# Altium schematic symbol library xiaomo.SchLib: 106 symbols
Pins are listed as number, name and electrical type; pins without a type are passive.

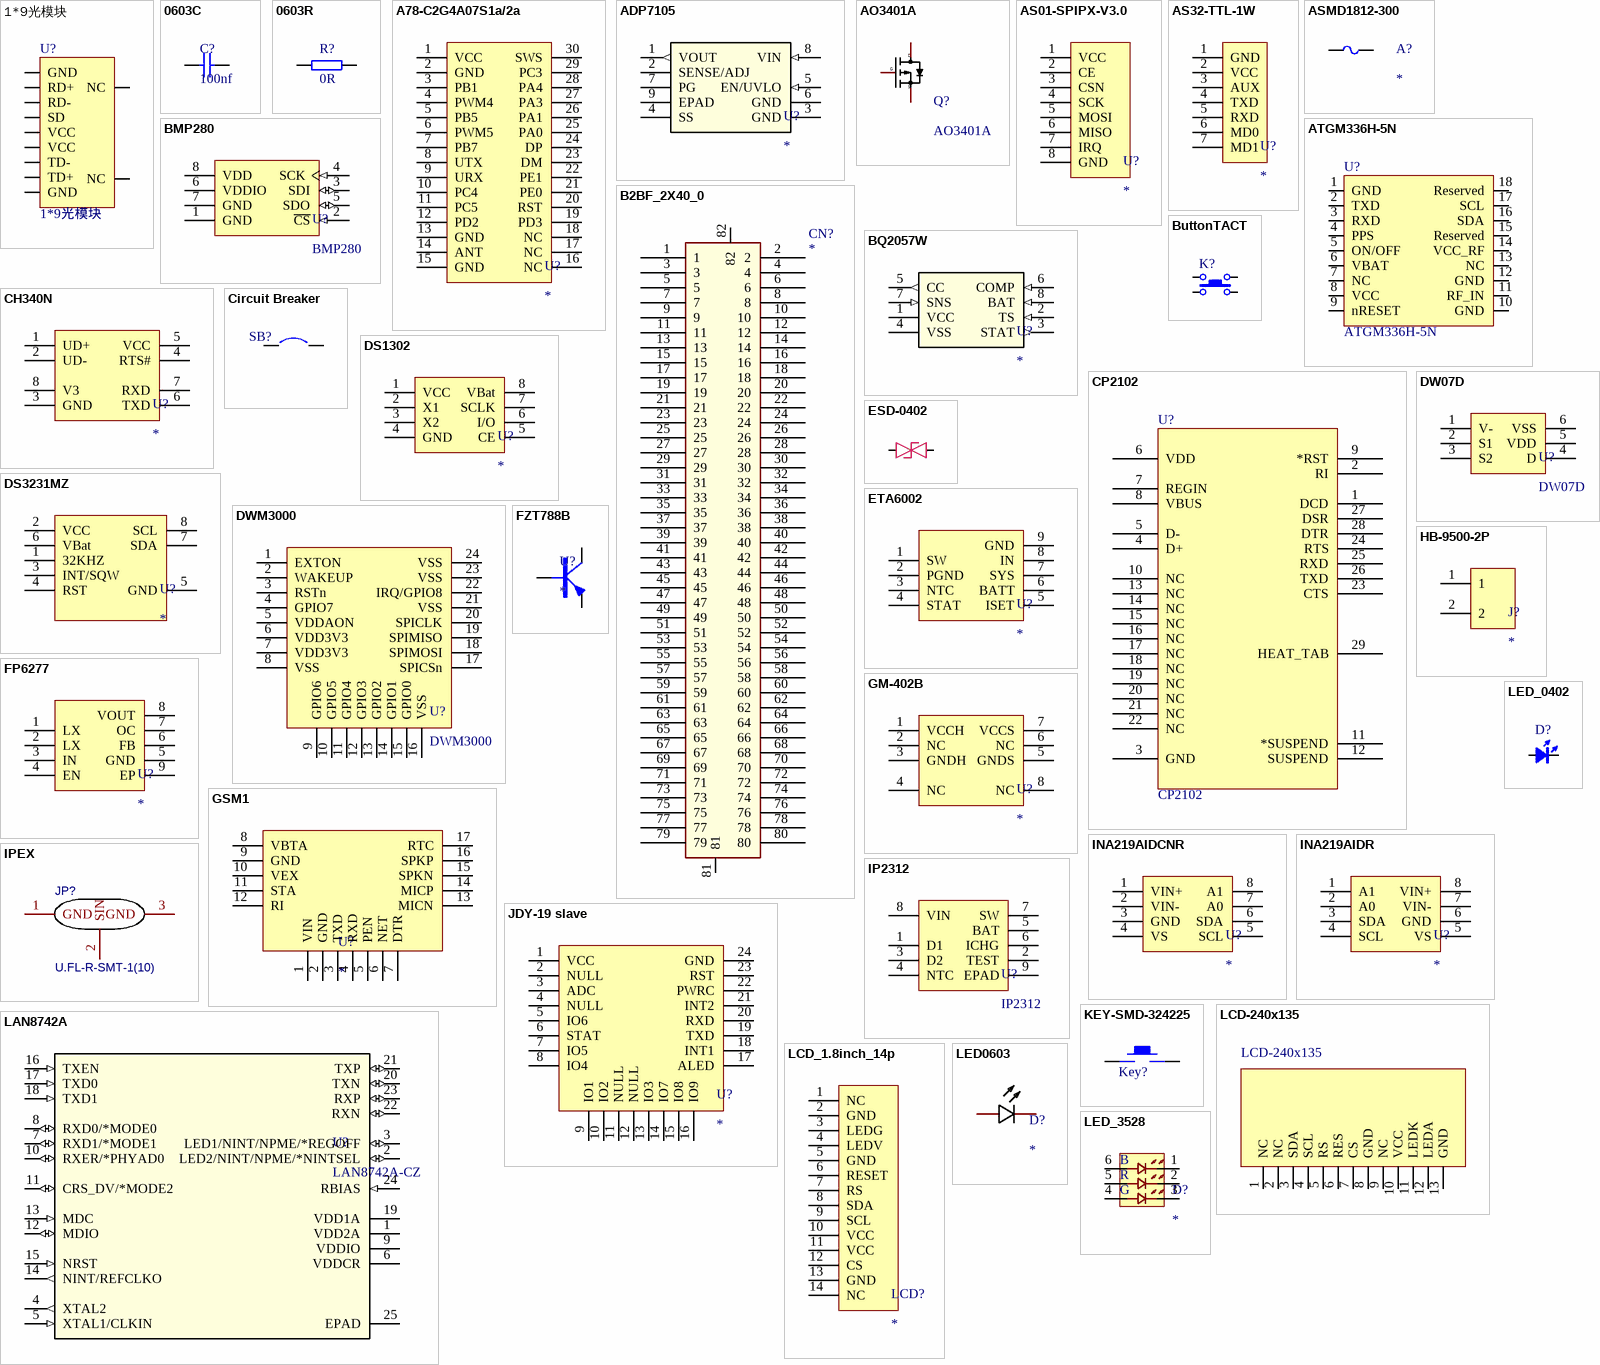
[diagram p0: symbols 1*9光模块 to LED_3528]

## 1*9光模块
designator U?
footprint 1*9 光模块
footprint 1*9 光模块
pins: 1 GND, 2 RD+, 3 RD-, 4 SD, 5 VCC, 6 VCC, 7 TD-, 8 TD+, 9 GND, 10 NC, 11 NC

## 0603C
designator C?, comment 100nf
footprint 0603C
footprint 0201C
footprint 0402C
pins: 1, 2

## 0603R
designator R?, comment 0R
footprint 0603R
footprint 0201R
footprint 0402R
pins: 1, 2

## A78-C2G4A07S1a/2a
designator U?
footprint A78-C2G4A07S1a/2a
pins: 1 VCC, 2 GND, 3 PB1, 4 PWM4, 5 PB5, 6 PWM5, 7 PB7, 8 UTX, 9 URX, 10 PC4, 11 PC5, 12 PD2, 13 GND, 14 ANT, 15 GND, 16 NC, 17 NC, 18 NC, 19 PD3, 20 RST, 21 PE0, 22 PE1, 23 DM, 24 DP, 25 PA0, 26 PA1, 27 PA3, 28 PA4, 29 PC3, 30 SWS

## ADP7105
designator U?
20 V、500 mA低噪声LDO / 稳压器，具有软启动功能
footprint ADP7105
pins: 1 VOUT (out), 2 SENSE/ADJ, 3 GND, 4 SS, 5 EN/UVLO (in), 6 GND, 7 PG (power), 8 VIN (in), 9 EPAD

## AO3401A
designator Q?
PMOS,30V,4.2A
footprint SOT23-3
pins: 1 G, 2 S, 3 D

## AS01-SPIPX-V3.0
designator U?
AS01-SPIPX-V3.0
footprint AS01-SPIPX-V3.0
pins: 1 VCC, 2 CE, 3 CSN, 4 SCK, 5 MOSI, 6 MISO, 7 IRQ, 8 GND

## AS32-TTL-1W
designator U?
LoRa模块
footprint AS32-TTL-1W
footprint AS62d33(433MHz)-TTL-2W
pins: 1 GND, 2 VCC, 3 AUX, 4 TXD, 5 RXD, 6 MD0, 7 MD1

## ASMD1812-300
designator A?
3A自恢复保险丝。最大电压：8V 最大电流：100A 保持电流：3A 跳闸电流：5A 消耗功率：800mW 初始态阻值(最小值)：12mΩ 跳断后阻值(最大值)：40mΩ 最大动作时间：4s 工作温度：-40℃~+85℃ 8V , 100A , 3A , 5A , 800mW , 12mΩ , 40mΩ , 4s , -40℃~+85℃ ,
footprint FUSE-1812
pins: 1, 2

## ATGM336H-5N
designator U?
ATGM336H-5N31
footprint ATGM336H-5N
pins: 1 GND, 2 TXD, 3 RXD, 4 PPS, 5 ON/OFF, 6 VBAT, 7 NC, 8 VCC, 9 nRESET, 10 GND, 11 RF_IN, 12 GND, 13 NC, 14 VCC_RF, 15 Reserved, 16 SDA, 17 SCL, 18 Reserved

## B2BF_2X40_0
designator CN?
footprint B2BM-2X40-0P8
pins: 1, 2, 3, 4, 5, 6, 7, 8, 9, 10, 11, 12, 13, 14, 15, 16, 17, 18, 19, 20, 21, 22, 23, 24, 25, 26, 27, 28, 29, 30, 31, 32, 33, 34, 35, 36, 37, 38, 39, 40, 41, 42, 43, 44, 45, 46, 47, 48, 49, 50, 51, 52, 53, 54, 55, 56, 57, 58, 59, 60, 61, 62, 63, 64, 65, 66, 67, 68, 69, 70, 71, 72, 73, 74, 75, 76, 77, 78, 79, 80, 81, 82

## BMP280
designator U?
Digital Barometric Pressure Sensor 30-110kPa LGA8
footprint BMP280
pins: 1 GND (power), 2 ~{CS} (in), 3 SDI (io), 4 SCK (in), 5 SDO (io), 6 VDDIO (power), 7 GND (power), 8 VDD (power)

## BQ2057W
designator U?
Ideal for Single (4.1 V or 4.2 V) and Dual-Cell / (8.2 V or 8.4 V) Li-Ion or Li-Pol Packs
footprint BQ2057W
pins: 1 VCC (power), 2 TS (in), 3 STAT (out), 4 VSS (power), 5 CC (out), 6 COMP (in), 7 SNS (in), 8 BAT (in)

## ButtonTACT
designator K?, comment TACT 4P  (value not drawn)
Button; value: 3.4x3.5; type: TACT 4P
footprint ButtonTACT_3.5*3.55_90
pins: 1, 2, 3, 4

## CH340N
designator U?
SOP-8，USB转TTL，内部晶振
footprint SOP8
pins: 1 UD+, 2 UD-, 3 GND, 4 RTS#, 5 VCC, 6 TXD, 7 RXD, 8 V3

## Circuit Breaker
designator SB?  (value not drawn)
Solder: NO; Published: 24-Mar-1999; Revision: July-2002: Re-released for DXP Platform.; Publisher: Altium Limited
footprint SPST-2 (Circuit Breaker; 2 Leads)
footprint JP2_SMD
footprint JP2_SMD
pins: 1, 2

## CP2102
designator U?
USB转TTL; PART DESC: SINGLE-CHIP USB TO UART BRIDGE, QFN28, RoHS.; MFG #1: SILICON LABS; PART NUMBER: CP2102; Value: Value; RefDes: RefDes; Type: DEV
footprint QFN-28
pins: 1 DCD, 2 RI, 3 GND, 4 D+, 5 D-, 6 VDD, 7 REGIN, 8 VBUS, 9 *RST, 10 NC, 11 *SUSPEND, 12 SUSPEND, 13 NC, 14 NC, 15 NC, 16 NC, 17 NC, 18 NC, 19 NC, 20 NC, 21 NC, 22 NC, 23 CTS, 24 RTS, 25 RXD, 26 TXD, 27 DSR, 28 DTR, 29 HEAT_TAB

## DS1302
designator U?
DS1302/DS1302Z
footprint SOP8 - duplicate
pins: 1 VCC, 2 X1, 3 X2, 4 GND, 5 CE, 6 I/O, 7 SCLK, 8 VBat

## DS3231MZ
designator U?
IIC高精度RTC
footprint SOP8 - duplicate
footprint SOP8
pins: 1 32KHZ, 2 VCC, 3 INT/SQW, 4 RST, 5 GND, 6 VBat, 7 SDA, 8 SCL

## DW07D
designator U?
单节锂电池保护IC，过流保护3A
footprint SOT23-6
pins: 1 V- "充电器检测", 2 S1 "充电负极", 3 S2 "连接VSS", 4 D, 5 VDD "正电源", 6 VSS "接电池负极"

## DWM3000
designator U?
footprint DWM1000
pins: 1 EXTON, 2 WAKEUP, 3 RSTn, 4 GPIO7, 5 VDDAON, 6 VDD3V3, 7 VDD3V3, 8 VSS, 9 GPIO6, 10 GPIO5, 11 GPIO4, 12 GPIO3, 13 GPIO2, 14 GPIO1, 15 GPIO0, 16 VSS, 17 SPICSn, 18 SPIMOSI, 19 SPIMISO, 20 SPICLK, 21 VSS, 22 IRQ/GPIO8, 23 VSS, 24 VSS

## ESD-0402
designator ESD-?  (value not drawn)
ESD
footprint ESD-0402
pins: 1, 2

## ETA6002
designator U?
2.5A单节锂电池充电IC，输入4.5-5.5V
footprint SOP8-exposed pad
pins: 1 SW, 2 PGND, 3 NTC, 4 STAT, 5 ISET, 6 BATT, 7 SYS, 8 IN, 9 GND

## FP6277
designator U?
输入2.4-4.5V，最大输出5.3V，
footprint SOP8-exposed pad
pins: 1 LX, 2 LX, 3 IN, 4 EN, 5 GND, 6 FB, 7 OC, 8 VOUT, 9 EP

## FZT788B
designator U?
15V PNP MEDIUM POWER HIGH GAIN TRANSISTOR IN SOT223
footprint SOT223
pins: B, C, E

## GM-402B
designator U?
MEMS可燃气体传感器
footprint GM-402B (MEMS可燃气体传感器)
pins: 1 VCCH, 2 NC, 3 GNDH, 4 NC, 5 GNDS, 6 NC, 7 VCCS, 8 NC

## GSM1
designator U?
GSM
footprint GSM1
pins: 1 VIN, 2 GND, 3 TXD, 4 RXD, 5 PEN, 6 NET, 7 DTR, 8 VBTA, 9 GND, 10 VEX, 11 STA, 12 RI, 13 MICN, 14 MICP, 15 SPKN, 16 SPKP, 17 RTC

## HB-9500-2P
designator J?
footprint HB-9500-2P
pins: 1, 2

## INA219AIDCNR
designator U?
电流监控器IC
footprint SOT23-8
pins: 1 VIN+, 2 VIN-, 3 GND, 4 VS, 5 SCL, 6 SDA, 7 A0, 8 A1

## INA219AIDR
designator U?
电流监控器IC
footprint SOP8
pins: 1 A1, 2 A0, 3 SDA, 4 SCL, 5 VS, 6 GND, 7 VIN-, 8 VIN+

## IP2312
designator U?
单节锂电池同步开关降压充电IC
footprint SOP8-exposed pad
pins: 1 D1 "LED 驱动引脚/电池类型选择（IP2312_VSET）", 2 TEST "测试引脚，接1K 电阻到电池正极", 3 D2 "LED 驱动引脚", 4 NTC "NTC 温度保护，接NTC 电阻", 5 BAT "连接锂电池正极", 6 ICHG "充电电流设置引脚", 7 SW "DC-DC 开关引脚", 8 VIN "5V 充电输入引脚", 9 EPAD "GND"

## IPEX
designator JP?, comment U.FL-R-SMT-1(10)
C2894920; BOM_Manufacturer: HRS; BOM_Supplier: LCSC; BOM_Manufacturer Part: U.FL-R-SMT-1(10); BOM_Supplier Part: C88373; spicePre: J
footprint 天线底座 (U.FL-R-SMT-1(10))
pins: 1 GND, 2 SIN, 3 GND

## JDY-19 slave
designator U?
蓝牙4.2 从机
footprint JDY-19
pins: 1 VCC, 2 NULL, 3 ADC, 4 NULL, 5 IO6, 6 STAT, 7 IO5, 8 IO4, 9 IO1, 10 IO2, 11 NULL, 12 NULL, 13 IO3, 14 IO7, 15 IO8, 16 IO9, 17 ALED, 18 INT1, 19 TXD, 20 RXD, 21 INT2, 22 PWRC, 23 RST, 24 GND

## KEY-SMD-324225
designator Key?, comment S-KEY-SMD-324225  (value not drawn)
KEY,SMD,324225
footprint KEY-SOP324225
footprint KEY-SOP324225
pins: 1, 2

## LAN8742A
designator U?, comment LAN8742A-CZ
以太网芯片
footprint SQFN24_4X4MC_MCH
footprint SQFN24_4X4MC_MCH-L
footprint SQFN24_4X4MC_MCH-M
pins: 1 VDD2A (power), 2 LED2/NINT/NPME/*NINTSEL (io), 3 LED1/NINT/NPME/*REGOFF (io), 4 XTAL2 (out), 5 XTAL1/CLKIN (in), 6 VDDCR (power), 7 RXD1/*MODE1 (io), 8 RXD0/*MODE0 (io), 9 VDDIO (power), 10 RXER/*PHYAD0 (io), 11 CRS_DV/*MODE2 (io), 12 MDIO (io), 13 MDC (in), 14 NINT/REFCLKO (out), 15 NRST (in), 16 TXEN (in), 17 TXD0 (in), 18 TXD1 (in), 19 VDD1A (power), 20 TXN (io), 21 TXP (io), 22 RXN (io), 23 RXP (io), 24 RBIAS (in), 25 EPAD

## LCD-240x135
designator LCD?
显示屏
footprint LCD-240x135
pins: 1 NC, 2 NC, 3 SDA, 4 SCL, 5 RS, 6 RES, 7 CS, 8 GND, 9 NC, 10 VCC, 11 LEDK, 12 LEDA, 13 GND

## LCD_1.8inch_14p
designator LCD?
1.8inchLCD, 14P
footprint LCD_1.8inch_14P
pins: 1 NC, 2 GND, 3 LEDG, 4 LEDV, 5 GND, 6 RESET, 7 RS, 8 SDA, 9 SCL, 10 VCC, 11 VCC, 12 CS, 13 GND, 14 NC

## LED0603
designator D?
0603LED
footprint LED-0603G
pins: A, K C

## LED_0402
designator D?, comment color?  (value not drawn)
LED; Type: 0402; Value: color?
footprint LED-0603W
footprint LED_0402
pins: A, K

## LED_3528
designator D?
3528LED RGB 三色，立创商城  C2843672
footprint 3528_LED_6P
pins: 1 B-, 2 G-, 3 R-, 4 R+, 5 G+, 6 B+
text: B; R; G

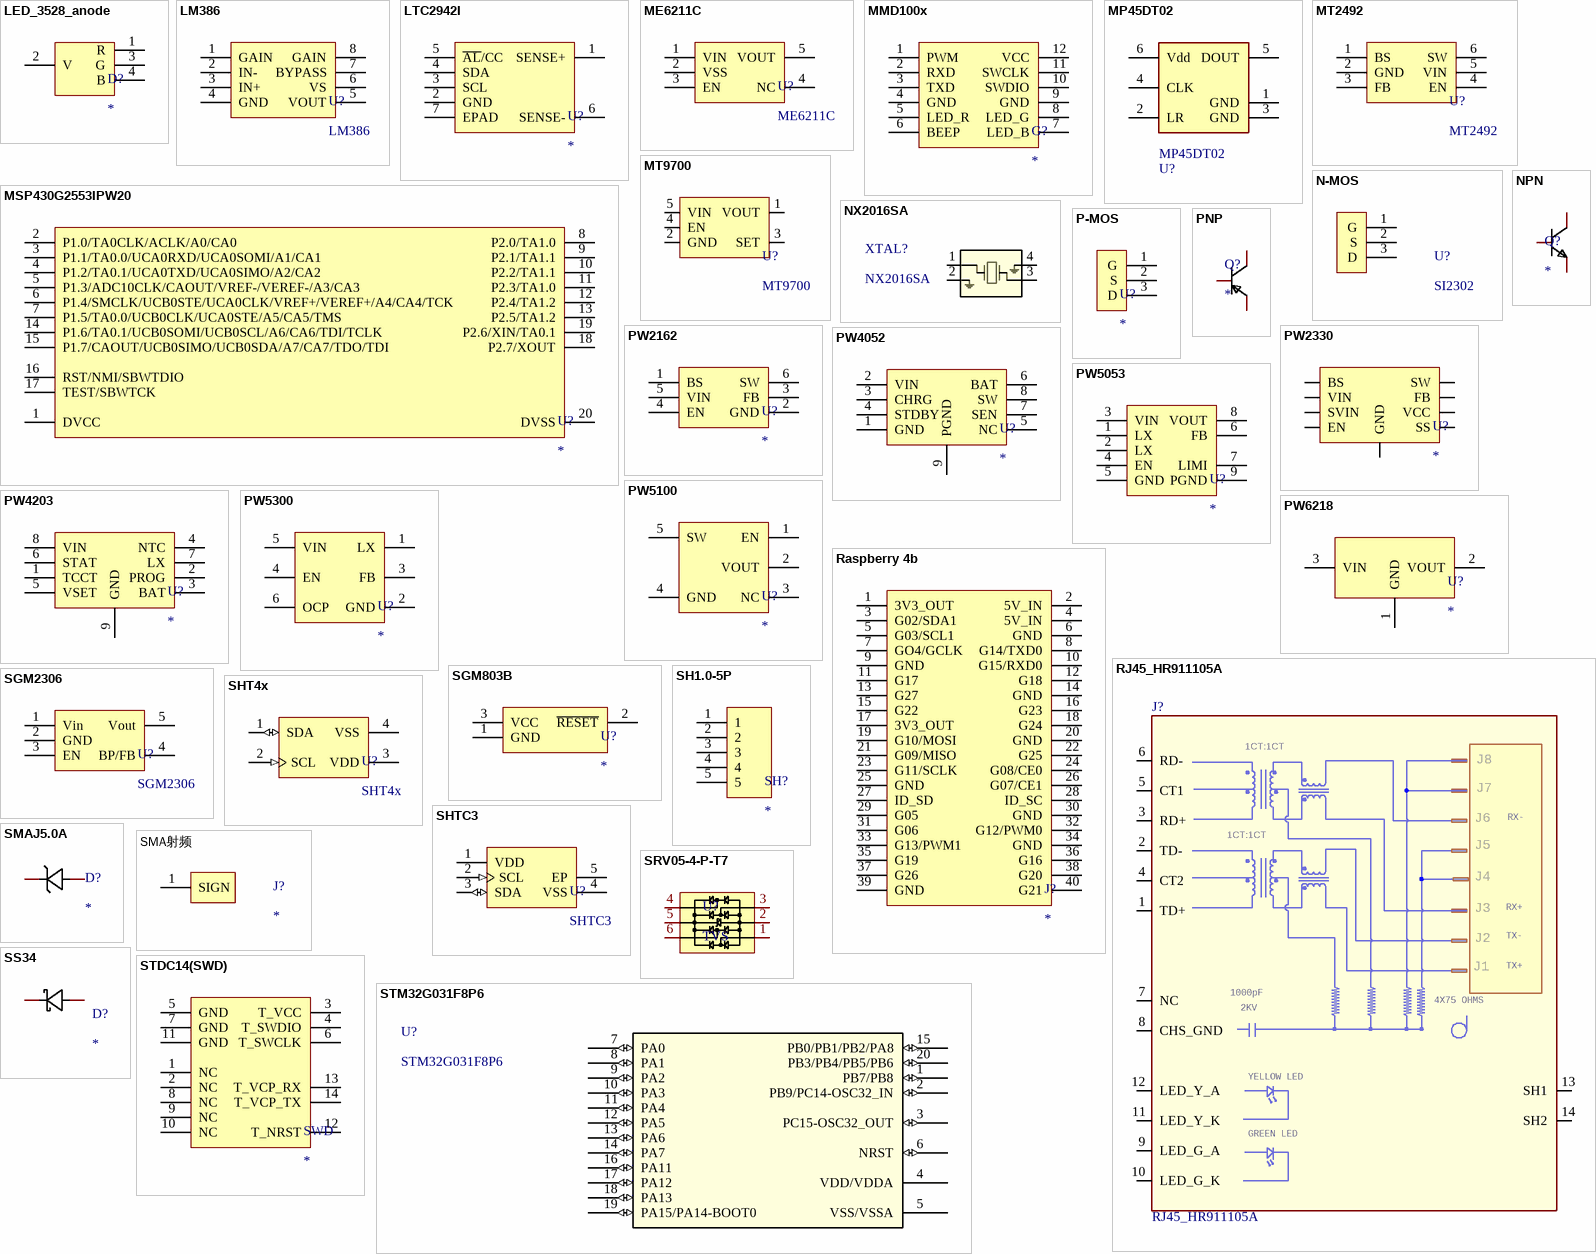
[diagram p1: symbols LED_3528_anode to STM32G031F8P6]

## LED_3528_anode
designator D?
3528LED RGB 共阳，立创商城 C516144
footprint 3528_LED
pins: 1 R, 2 V, 3 G, 4 B

## LM386
designator U?
LM386是一种音频集成功放，具有自身功耗低、更新内链增益可调整、电源电压范围大、外接元件少和总谐波失真小等优点的功率放大器，广泛应用于录音机和收音机之中。
footprint LM386-DIP8
footprint LM386-SOP8
pins: 1 GAIN, 2 IN-, 3 IN+, 4 GND, 5 VOUT, 6 VS, 7 BYPASS, 8 GAIN

## LTC2942I
designator U?
单节锂电池电量计芯片
footprint DFN-6_DCB_LIT-M
pins: 1 SENSE+, 2 GND, 3 SCL, 4 SDA, 5 ~{AL}/CC, 6 SENSE-, 7 EPAD

## ME6211C
designator U?
低压差线性稳压器
footprint SOT23-5
pins: 1 VIN, 2 VSS, 3 EN, 4 NC, 5 VOUT

## MMD100x
designator G?
footprint MMD100x
pins: 1 PWM, 2 RXD, 3 TXD, 4 GND, 5 LED_R, 6 BEEP, 7 LED_B, 8 LED_G, 9 GND, 10 SWDIO, 11 SWCLK, 12 VCC

## MP45DT02
designator U?  Part Number: MP45DT02
IC MIC MEMS DIGITAL OMNI -26DB; Manufacturer: STMicroelectronics; Frequency Range: 100Hz ~ 10kHz; S/N Ratio: 61dB; Sensitivity: -26dB ±3dB @ 94dB SPL; helpURL: https://upverter.com/upn/revision/194cad8a0962aed0/; ComponentLink2Description: Datasheet; Temperature: -30°C to +85°C; Package: SMD6; Supplier 2: Mouser; Price: 1.88399994308; Supplier 1: Digi-Key; ComponentLink1URL: https://upverter.com/upn/revision/194cad8a0962aed0/; Supplier Part Number 2: 511-MP45DT02; Supplier Part Number 1: MP45DT02-ND; ComponentLink1Description: Upverter; ComponentLink2URL: http://www.st.com/content/ccc/resource/technical/document/datasheet/group3/27/62/48/98/44/54/4d/36/DM00303211/files/DM00303211.pdf/jcr:content/translations/en.DM00303211.pdf; RoHS: TRUE; Mouser Part Number: 511-MP45DT02; Temperature Range High: +85°C; Digikey Description: IC MIC MEMS DIGITAL OMNI -26DB; Digikey Part Number: MP45DT02-ND; Lead Free: yes; Temperature Range Low: -30°C
footprint STMicroelectronics_MP45DT02_0
footprint MP45DT02
pins: 1 GND, 2 LR, 3 GND, 4 CLK, 5 DOUT, 6 Vdd

## MSP430G2553IPW20
designator U?
footprint TSSOP20
pins: 1 DVCC, 2 P1.0/TA0CLK/ACLK/A0/CA0, 3 P1.1/TA0.0/UCA0RXD/UCA0SOMI/A1/CA1, 4 P1.2/TA0.1/UCA0TXD/UCA0SIMO/A2/CA2, 5 P1.3/ADC10CLK/CAOUT/VREF-/VEREF-/A3/CA3, 6 P1.4/SMCLK/UCB0STE/UCA0CLK/VREF+/VEREF+/A4/CA4/TCK, 7 P1.5/TA0.0/UCB0CLK/UCA0STE/A5/CA5/TMS, 8 P2.0/TA1.0, 9 P2.1/TA1.1, 10 P2.2/TA1.1, 11 P2.3/TA1.0, 12 P2.4/TA1.2, 13 P2.5/TA1.2, 14 P1.6/TA0.1/UCB0SOMI/UCB0SCL/A6/CA6/TDI/TCLK, 15 P1.7/CAOUT/UCB0SIMO/UCB0SDA/A7/CA7/TDO/TDI, 16 RST/NMI/SBWTDIO, 17 TEST/SBWTCK, 18 P2.7/XOUT, 19 P2.6/XIN/TA0.1, 20 DVSS

## MT2492
designator U?
footprint SOT23-6
pins: 1 BS, 2 GND, 3 FB, 4 EN, 5 VIN, 6 SW

## MT9700
designator U?
低功耗负载开关/USB电源开关/限流保护开关。2.4V~5.5V。
footprint SOT23-5 (ME6211C-SOT23-5)
pins: 1 VOUT, 2 GND, 3 SET, 4 EN, 5 VIN

## N-MOS
designator U?, comment SI2302
footprint SOT23-3
pins: 1 G, 2 S, 3 D
1 alternate drawing of the same symbol

## NPN
designator Q?
footprint SOT23-3
pins: 1 B, 2 E, 3 C

## NX2016SA
designator XTAL?
4P无源晶振; Mfr_Name: NDK; Manufacturer_Part_Number: NX2016SA-40M-STD-CZS-3; Copyright: Copyright (C) 2023 Ultra Librarian. All rights reserved.; RefDes: RefDes; Type: DEV
footprint NX2016SA-40M-STD-CZS-3_NDK
pins: 1, 2, 3, 4

## P-MOS
designator U?
footprint SOT23-3
pins: 1 G, 2 S, 3 D

## PNP
designator Q?
footprint SOT23-3
pins: 1 B, 2 E, 3 C

## PW2162
designator U?
3.3V-16V输入，2A输出
footprint SOT23-6
pins: 1 BS, 2 GND, 3 FB, 4 EN, 5 VIN, 6 SW

## PW2330
designator U?
4.5-30V输入，最大输出3A。
footprint PW2330
pins: BS, EN, FB, GND, SS, SVIN, SW, VCC, VIN

## PW4052
designator U?
2.5A单节锂电池充电管理IC，4.7v~5.5V
footprint SOP8-exposed pad
pins: 1 GND, 2 VIN, 3 CHRG, 4 STDBY, 5 NC, 6 BAT, 7 SEN, 8 SW, 9 PGND

## PW4203
designator U?
4.5-24V输出，1-3节锂电池充电，最大2A
footprint SOP8 - duplicate
footprint SOP8-exposed pad
pins: 1 TCCT, 2 PROG, 3 BAT, 4 NTC, 5 VSET, 6 STAT, 7 LX, 8 VIN, 9 GND

## PW5053
designator U?
2.4V-4.5V输入，3.0V-5.5V输出，最大3A
footprint SOP8-exposed pad
pins: 1 LX, 2 LX, 3 VIN, 4 EN, 5 GND, 6 FB, 7 LIMI, 8 VOUT, 9 PGND

## PW5100
designator U?
footprint SOT23-5 - duplicate
footprint SOT23-5 (ME6211C-SOT23-5)
pins: 1 EN, 2 VOUT, 3 NC, 4 GND, 5 SW "Vin"

## PW5300
designator U?
footprint SOT23-6
pins: 1 LX, 2 GND, 3 FB, 4 EN, 5 VIN, 6 OCP

## PW6218
designator U?
18V输入，3V-5V输出，100mA
footprint SOT23-3
pins: 1 GND, 2 VOUT, 3 VIN

## Raspberry 4b
designator J?
树莓派4b引脚
footprint Fe-HDR2X20/2.54-S (Connector; Header; 20x2 Position)
footprint Pin HDR2X20/2.54mm-S (Connector; Header; 20x2 Position)
pins: 1 3V3_OUT, 2 5V_IN, 3 G02/SDA1, 4 5V_IN, 5 G03/SCL1, 6 GND, 7 GO4/GCLK, 8 G14/TXD0, 9 GND, 10 G15/RXD0, 11 G17, 12 G18, 13 G27, 14 GND, 15 G22, 16 G23, 17 3V3_OUT, 18 G24, 19 G10/MOSI, 20 GND, 21 G09/MISO, 22 G25, 23 G11/SCLK, 24 G08/CE0, 25 GND, 26 G07/CE1, 27 ID_SD, 28 ID_SC, 29 G05, 30 GND, 31 G06, 32 G12/PWM0, 33 G13/PWM1, 34 GND, 35 G19, 36 G16, 37 G26, 38 G20, 39 GND, 40 G21

## RJ45_HR911105A
designator J?
以太网连接器(RJ45 RJ11); CLASS: IO
footprint HR911105A
pins: 1 TD+, 2 TD-, 3 RD+, 4 CT2, 5 CT1, 6 RD-, 7 NC, 8 CHS_GND, 9 LED_G_A, 10 LED_G_K, 11 LED_Y_K, 12 LED_Y_A, 13 SH1, 14 SH2
text: 1CT:1CT; J8; J7; RX-; J6; J5; J4; RX+; J3; TX-; J2; TX+; J1; 1000pF; 4X75 OHMS; 2KV; YELLOW LED; GREEN LED

## SGM803B
designator U?
低电压预警IC，复位IC
footprint SOT23-3
pins: 1 GND, 2 ~{RESET}, 3 VCC

## SGM2306
designator U?
300mA, Low Power, Low Dropout, / RF Linear Regulators
footprint SOT23-5 (ME6211C-SOT23-5)
pins: 1 Vin, 2 GND, 3 EN, 4 BP/FB, 5 Vout

## SH1.0-5P
designator SH?
footprint SH1.0-5P
pins: 1, 2, 3, 4, 5

## SHT4x
designator U?
SHT4x Series 3.6 V 80% RH 4th Generation Digital Humidity and Temperature Sensor
footprint SHT4x
pins: 1 SDA (io), 2 SCL (in), 3 VDD (power), 4 VSS (power)

## SHTC3
designator U?
Humidity/Temperature Sensor Digital Serial (I2C) 4-Pin DFN EP T/R
footprint Model Name (Footprint not found)
footprint SHTC3
pins: 1 VDD (power), 2 SCL (in), 3 SDA (io), 4 VSS (power), 5 EP (power)

## SMAJ5.0A
designator D?
footprint SMA/DO-214AC (塑封二极管)
pins: A, K C

## SMA射频
designator J?
SMA射频天线
footprint SMA-KWE/90°
pins: 1 SIGN, 2 GND hidden, 3 GND hidden, 4 GND hidden, 5 GND hidden

## SRV05-4-P-T7
designator U?, comment TVS
TVS，反向截止电压(Vrwm)：5V 击穿电压：6V 峰值脉冲电流(Ipp)@10/1000μs：1A@8/20us 最大钳位电压：12V VBR=6V ，Vc=12.5V， Ipp=12A ，Cd=5pF
footprint SOT23-6
pins: 1, 2, 3, 4, 5, 6

## SS34
designator D?
肖特基二极管
footprint SMA/DO-214AC (塑封二极管)
pins: A, K

## STDC14(SWD)
designator SWD
For STLINK_V3SET
footprint STDC14
pins: 1 NC, 2 NC, 3 T_VCC, 4 T_SWDIO, 5 GND, 6 T_SWCLK, 7 GND, 8 NC, 9 NC, 10 NC, 11 GND, 12 T_NRST, 13 T_VCP_RX, 14 T_VCP_TX

## STM32G031F8P6
designator U?
Mfr_Name: STMicroelectronics; Copyright: Copyright (C) 2022 Ultra Librarian. All rights reserved.; Manufacturer_Part_Number: STM32G031F8P6; RefDes: RefDes; Type: DEV
footprint TSSOP20
footprint TSSOP20 - duplicate
pins: 1 PB7/PB8 (io), 2 PB9/PC14-OSC32_IN (io), 3 PC15-OSC32_OUT (io), 4 VDD/VDDA (power), 5 VSS/VSSA (power), 6 NRST (io), 7 PA0 (io), 8 PA1 (io), 9 PA2 (io), 10 PA3 (io), 11 PA4 (io), 12 PA5 (io), 13 PA6 (io), 14 PA7 (io), 15 PB0/PB1/PB2/PA8 (io), 16 PA11 (io), 17 PA12 (io), 18 PA13 (io), 19 PA15/PA14-BOOT0 (io), 20 PB3/PB4/PB5/PB6 (io)

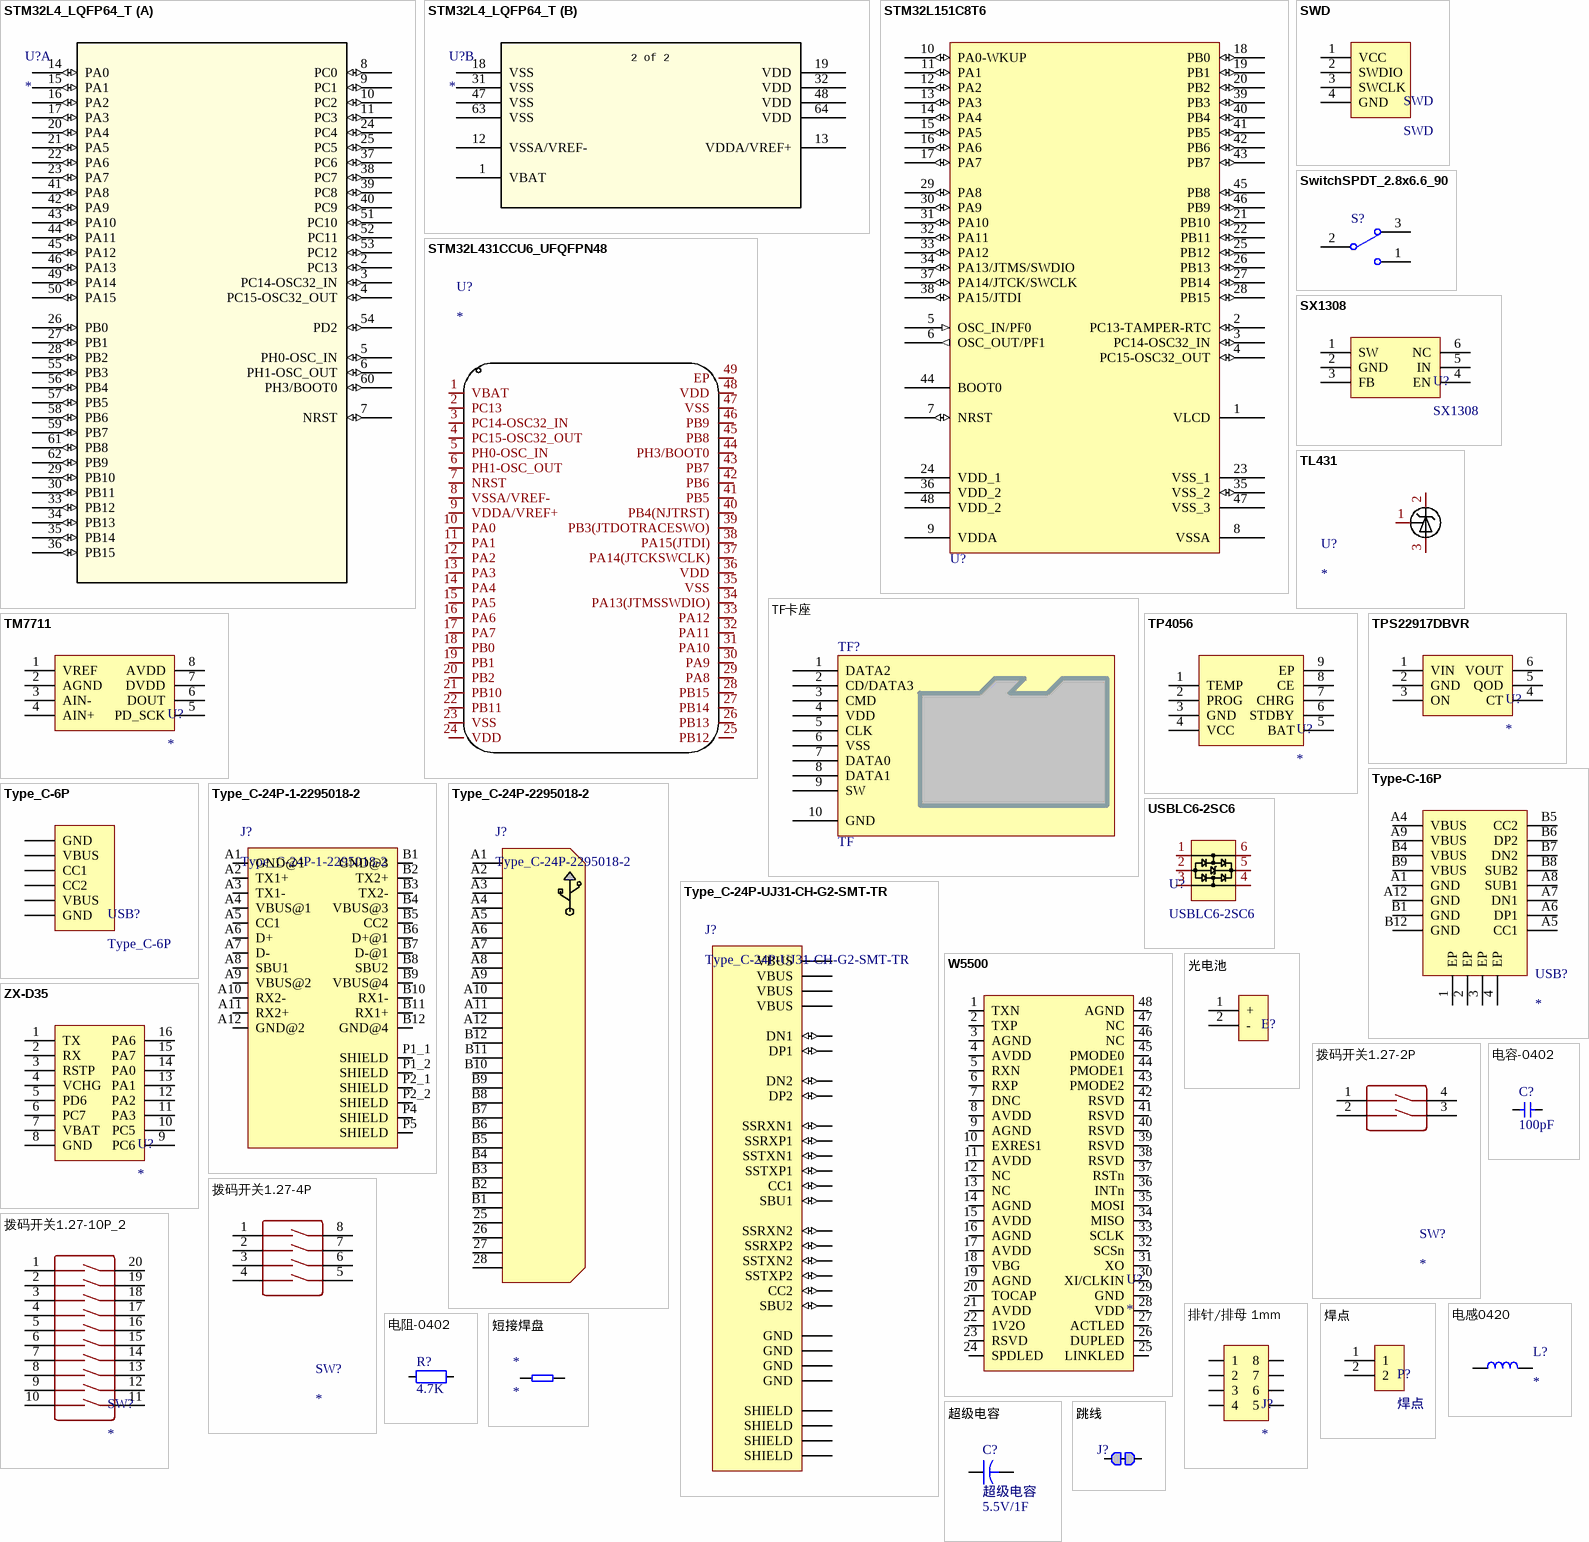
[diagram p2: symbols STM32L4_LQFP64_T to 跳线]

## STM32L4_LQFP64_T
designator U?
Imported; Manufacturer_Part_Number: stm32l4_lqfp64_t7; Built_By: EMA_Jessica; Vendor: STMicroelectronics; Copyright: Copyright (C) 2016 Accelerated Designs. All rights reserved; Value: Value; Type: Type; RefDes: RefDes
footprint LQFP-64
part A pins: 2 PC13 (io), 3 PC14-OSC32_IN (io), 4 PC15-OSC32_OUT (io), 5 PH0-OSC_IN (io), 6 PH1-OSC_OUT (io), 7 NRST (io), 8 PC0 (io), 9 PC1 (io), 10 PC2 (io), 11 PC3 (io), 14 PA0 (io), 15 PA1 (io), 16 PA2 (io), 17 PA3 (io), 20 PA4 (io), 21 PA5 (io), 22 PA6 (io), 23 PA7 (io), 24 PC4 (io), 25 PC5 (io), 26 PB0 (io), 27 PB1 (io), 28 PB2 (io), 29 PB10 (io), 30 PB11 (io), 33 PB12 (io), 34 PB13 (io), 35 PB14 (io), 36 PB15 (io), 37 PC6 (io), 38 PC7 (io), 39 PC8 (io), 40 PC9 (io), 41 PA8 (io), 42 PA9 (io), 43 PA10 (io), 44 PA11 (io), 45 PA12 (io), 46 PA13 (io), 49 PA14 (io), 50 PA15 (io), 51 PC10 (io), 52 PC11 (io), 53 PC12 (io), 54 PD2 (io), 55 PB3 (io), 56 PB4 (io), 57 PB5 (io), 58 PB6 (io), 59 PB7 (io), 60 PH3/BOOT0 (io), 61 PB8 (io), 62 PB9 (io)
part B pins: 1 VBAT (power), 12 VSSA/VREF- (power), 13 VDDA/VREF+ (power), 18 VSS (power), 19 VDD (power), 31 VSS (power), 32 VDD (power), 47 VSS (power), 48 VDD (power), 63 VSS (power), 64 VDD (power)
part B text: 2 of 2

## STM32L151C8T6
designator U?  (value not drawn)
footprint LC-LQFP-48_7x7x05P
footprint Model Name (Footprint not found)
footprint LQFP48 7X7
pins: 1 VLCD, 2 PC13-TAMPER-RTC (io), 3 PC14-OSC32_IN (io), 4 PC15-OSC32_OUT (io), 5 OSC_IN/PF0 (in), 6 OSC_OUT/PF1 (out), 7 NRST (io), 8 VSSA (power), 9 VDDA (power), 10 PA0-WKUP (io), 11 PA1 (io), 12 PA2 (io), 13 PA3 (io), 14 PA4 (io), 15 PA5 (io), 16 PA6 (io), 17 PA7 (io), 18 PB0 (io), 19 PB1 (io), 20 PB2 (io), 21 PB10 (io), 22 PB11 (io), 23 VSS_1 (power), 24 VDD_1 (power), 25 PB12 (io), 26 PB13 (io), 27 PB14 (io), 28 PB15 (io), 29 PA8 (io), 30 PA9 (io), 31 PA10 (io), 32 PA11 (io), 33 PA12 (io), 34 PA13/JTMS/SWDIO (io), 35 VSS_2 (io), 36 VDD_2, 37 PA14/JTCK/SWCLK (io), 38 PA15/JTDI (io), 39 PB3 (io), 40 PB4 (io), 41 PB5 (io), 42 PB6 (io), 43 PB7 (io), 44 BOOT0, 45 PB8 (io), 46 PB9 (io), 47 VSS_3 (power), 48 VDD_2 (power)

## STM32L431CCU6_UFQFPN48
designator U?
STM32L431CCU6【C1337258】; Manufacturer_Part_Number: stm32l4_lqfp64_t7; Built_By: EMA_Jessica; Vendor: STMicroelectronics; Copyright: Copyright (C) 2016 Accelerated Designs. All rights reserved; Value: Value; Type: Type; RefDes: RefDes
footprint UFQFPN-48_L7.0-W7.0-P0.50-BL-EP
pins: 1 VBAT, 2 PC13, 3 PC14-OSC32_IN, 4 PC15-OSC32_OUT, 5 PH0-OSC_IN, 6 PH1-OSC_OUT, 7 NRST, 8 VSSA/VREF-, 9 VDDA/VREF+, 10 PA0, 11 PA1, 12 PA2, 13 PA3, 14 PA4, 15 PA5, 16 PA6, 17 PA7, 18 PB0, 19 PB1, 20 PB2, 21 PB10, 22 PB11, 23 VSS, 24 VDD, 25 PB12, 26 PB13, 27 PB14, 28 PB15, 29 PA8, 30 PA9, 31 PA10, 32 PA11, 33 PA12, 34 PA13(JTMSSWDIO), 35 VSS, 36 VDD, 37 PA14(JTCKSWCLK), 38 PA15(JTDI), 39 PB3(JTDOTRACESWO), 40 PB4(NJTRST), 41 PB5, 42 PB6, 43 PB7, 44 PH3/BOOT0, 45 PB8, 46 PB9, 47 VSS, 48 VDD, 49 EP

## SWD
designator SWD
footprint 焊点×4
pins: 1 VCC, 2 SWDIO, 3 SWCLK, 4 GND

## SwitchSPDT_2.8x6.6_90
designator S?, comment SPDT 3P  (value not drawn)
Switch; Value: SPDT 3P; Type: SPDT
footprint SwitchSPDT_2.8X6.6_90
pins: 1, 2, 3

## SX1308
designator U?
High Efficiency 1.2MHz / 2A Step Up Converter
footprint SOT23-6
pins: 1 SW "Vout", 2 GND, 3 FB, 4 EN, 5 IN "VIN", 6 NC

## TF卡座
designator TF?, comment TF
8脚自弹
footprint TF-SOCKET
footprint TF-SOCKET - no hole
footprint TF-SOCKET - short
footprint TF-Card-Amphenol
footprint TF-Card-Amphenol with TF
pins: 1 DATA2, 2 CD/DATA3, 3 CMD, 4 VDD, 5 CLK, 6 VSS, 7 DATA0, 8 DATA1, 9 SW, 10 GND

## TL431
designator U?
footprint SOT23-3
pins: 1 REF, 2 C, 3 A

## TM7711
designator U?
单通道高精度ADC，iic
footprint SOP8
pins: 1 VREF, 2 AGND, 3 AIN-, 4 AIN+, 5 PD_SCK, 6 DOUT, 7 DVDD, 8 AVDD

## TP4056
designator U?
4~6V输入，最大1A电流，4.2V锂电池充电IC
footprint SOP8-exposed pad
pins: 1 TEMP "检测输入", 2 PROG "可编程恒流充电电流设置端", 3 GND "地", 4 VCC "电源", 5 BAT "电池", 6 STDBY "电池充电完成指示端(阴)", 7 CHRG "电池充电指示端(阴)", 8 CE "芯片使能输入端", 9 EP

## TPS22917DBVR
designator U?
C2681320
footprint SOT23-6
pins: 1 VIN, 2 GND, 3 ON, 4 CT, 5 QOD, 6 VOUT

## Type-C-16P
designator USB?
C709357
footprint USB-C-SMD_KH-TYPE-C-16P
pins: 1 EP, 2 EP, 3 EP, 4 EP, A1 GND, A4 VBUS, A5 CC1, A6 DP1, A7 DN1, A8 SUB1, A9 VBUS, A12 GND, B1 GND, B4 VBUS, B5 CC2, B6 DP2, B7 DN2, B8 SUB2, B9 VBUS, B12 GND

## Type_C-6P
designator USB?
footprint Type_C-6P
pins: 1 GND, 2 VBUS, 3 CC1, 4 CC2, 5 VBUS, 6 GND

## Type_C-24P-1-2295018-2
designator J?
Conn USB Type C RCP 12 POS Solder RA SMD 12 Terminal 1 Port T/R
footprint Type_C-TE_1-2295018-2(Primary)
pins: A1 GND@1, A2 TX1+, A3 TX1-, A4 VBUS@1, A5 CC1, A6 D+, A7 D-, A8 SBU1, A9 VBUS@2, A10 RX2-, A11 RX2+, A12 GND@2, B1 GND@3, B2 TX2+, B3 TX2-, B4 VBUS@3, B5 CC2, B6 D+@1, B7 D-@1, B8 SBU2, B9 VBUS@4, B10 RX1-, B11 RX1+, B12 GND@4, P1_1 SHIELD, P1_2 SHIELD, P2_1 SHIELD, P2_2 SHIELD, P4 SHIELD, P5 SHIELD

## Type_C-24P-2295018-2
designator J?
SPLASH PROOF USB TYPE C REC, DUAL SMT
footprint Type_C-CONN24_USB229501
pins: 25, 26, 27, 28, A1, A2, A3, A4, A5, A6, A7, A8, A9, A10, A11, A12, B1 B12, B2 B11, B3 B10, B4 B9, B5 B8, B6 B7, B7 B6, B8 B5, B9 B4, B10 B3, B11 B2, B12 B1

## Type_C-24P-UJ31-CH-G2-SMT-TR
designator J?
UJ31 Series Single Port 24 Contact Horizontal SMT Shielded USB-C 3.1 Receptacle
footprint Type_C-UJ31-CH-G2-SMT-TR(Primary)
pins: A1 GND (power), A2 SSTXP1 (io), A3 SSTXN1 (io), A4 VBUS (power), A5 CC1 (io), A6 DP1 (io), A7 DN1 (io), A8 SBU1 (io), A9 VBUS (power), A10 SSRXN2 (io), A11 SSRXP2 (io), A12 GND (power), B1 GND (power), B2 SSTXP2 (io), B3 SSTXN2 (io), B4 VBUS (power), B5 CC2 (io), B6 DP2 (io), B7 DN2 (io), B8 SBU2 (io), B9 VBUS (power), B10 SSRXN1 (io), B11 SSRXP1 (io), B12 GND (power), SH1 SHIELD (power), SH2 SHIELD (power), SH3 SHIELD (power), SH4 SHIELD (power)

## USBLC6-2SC6
designator U?
静电放电(ESD)保护器件，反向截止电压(Vrwm)：5.25V 击穿电压：6V 峰值脉冲电流(Ipp)：5A@8/20us 最大钳位电压(Vc)@Ipp：17V
footprint SOT23-6
pins: 1 I/O1, 2 GND, 3 I/O2, 4 I/O2, 5 VBUS, 6 I/O1

## W5500
designator U?
SPI以太网芯片，2.97V~3.63V，132mA。
footprint LQFP48 7X7
pins: 1 TXN, 2 TXP, 3 AGND, 4 AVDD, 5 RXN, 6 RXP, 7 DNC, 8 AVDD, 9 AGND, 10 EXRES1, 11 AVDD, 12 NC, 13 NC, 14 AGND, 15 AVDD, 16 AGND, 17 AVDD, 18 VBG, 19 AGND, 20 TOCAP, 21 AVDD, 22 1V2O, 23 RSVD, 24 SPDLED, 25 LINKLED, 26 DUPLED, 27 ACTLED, 28 VDD, 29 GND, 30 XI/CLKIN, 31 XO, 32 SCSn, 33 SCLK, 34 MISO, 35 MOSI, 36 INTn, 37 RSTn, 38 RSVD, 39 RSVD, 40 RSVD, 41 RSVD, 42 RSVD, 43 PMODE2, 44 PMODE1, 45 PMODE0, 46 NC, 47 NC, 48 AGND

## ZX-D35
designator U?
蓝牙5.1
footprint ZX-D35
pins: 1 TX, 2 RX, 3 RSTP, 4 VCHG, 5 PD6, 6 PC7, 7 VBAT, 8 GND, 9 PC6, 10 PC5, 11 PA3, 12 PA2, 13 PA1, 14 PA0, 15 PA7, 16 PA6

## 光电池
designator E?
footprint 光电池
pins: 1 +, 2 -

## 拨码开关1.27-2P
designator SW?
拨码开关1.27-2P。嘉立创SMT对应DSHP02TSGET
footprint 拨码开关1.27-2P
pins: 1, 2, 3, 4

## 拨码开关1.27-4P
designator SW?
拨码开关1.27-4P。嘉立创SMT对应DSHP04TSGET
footprint 拨码开关1.27-4P
pins: 1, 2, 3, 4, 5, 6, 7, 8

## 拨码开关1.27-10P_2
designator SW?
拨码开关1.27-10P。嘉立创SMT对应DSHP10TS-S
footprint 拨码开关1.27-10P
pins: 1, 2, 3, 4, 5, 6, 7, 8, 9, 10, 11, 12, 13, 14, 15, 16, 17, 18, 19, 20

## 排针/排母 1mm
designator J?
1mm间距
footprint 排针/排母1.0mm_4PX2 (1.0mm引脚间距排针/排母，直插式)
pins: 1, 2, 3, 4, 5, 6, 7, 8

## 焊点
designator P?
footprint 焊点
pins: 1, 2

## 电容-0402
designator C?, comment 100pF
Capacitor; Value: 0.1u
footprint CAP_0402
footprint 0603C
pins: 1, 2

## 电感0420
designator L?
0420电感
footprint 0420L
pins: 1, 2

## 电阻-0402
designator R?, comment 4.7K
Resistor; Value: 22R
footprint RES_0402
footprint 0603R
pins: 1, 2

## 短接焊盘
designator *
footprint 短接焊盘
pins: 1, 2

## 超级电容
designator C?  value 5.5V/1F
Capacitor; Published: 23-Sep-2002; PackageReference: CAPR5-4X5; Publisher: Altium Limited; PackageDescription: Capacitor; 2 Leads
simulation model CAP (Capacitor)
signal-integrity model Cap
footprint 超级电容5.5V/0.33F-1.5F
footprint Model Name (Footprint not found)
footprint 超级电容5.5V/0.33F-1.5F
footprint 超级电容5.5V/0.22F
pins: 1, 2

## 跳线
designator J?  (value not drawn)
Resistor; Published: 8-Jun-2000; LatestRevisionDate: 17-Jul-2002; LatestRevisionNote: Re-released for DXP Platform.; PackageReference: AXIAL-0.4; Publisher: Altium Limited; PackageDescription: Axial Device, Thru-Hole; 2 Leads; 0.4 in Pin Spacing
footprint 0402-0R (选择焊盘)
pins: 1, 2